# Altium footprint library AHD Footprint Library.PcbLib: 54 footprints (part 2 of 4)
Each footprint in its own frame and in the unit in brackets; x right, y up, seen from the top. Pads: shape width x height; smd on the part's side, far side on the other; paste and mask are expansions set on the pad; w line width, h text height; cw(c..) or ccw(c..) is an arc to the next point about the centre after c.
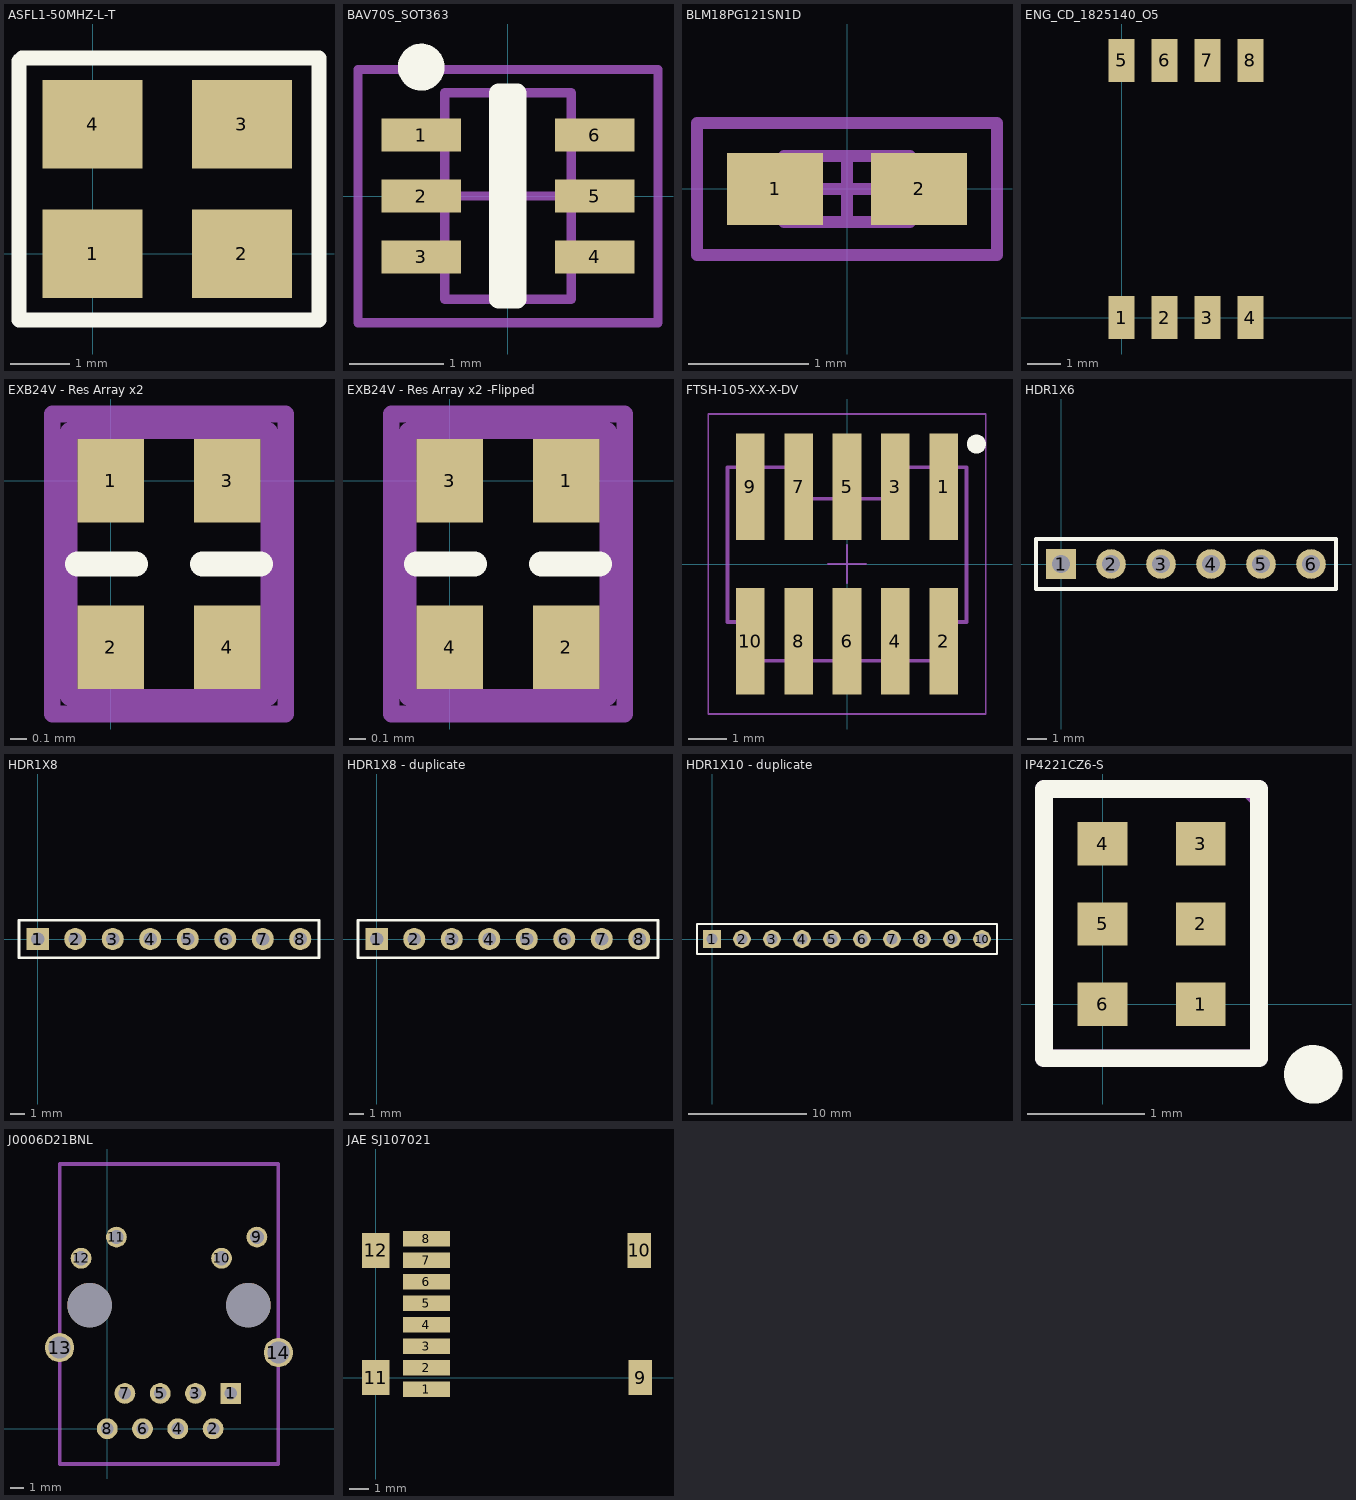
[diagram p1: the footprints below, top view; thin cyan lines are the x and y axes]

## Arduino Leonardo I2C High Byte [mm] "Arduino Lenardo header with I2C and AREF"

## ASFL1-50MHZ-L-T [mm] "Abracon ASFL1-50MHZ-L-T 50MHZ Crystal Oscillator"
pads (4):
  rect 1.7x1.5 smd: 1(0,0) 2(2.54,0) 3(2.54,2.2) 4(0,2.2)
Top Overlay:
  lines w0.254: -1.25,-1.125 3.85,-1.125 3.85,3.325 -1.2,3.325 -1.25,3.275 -1.25,-1.125

## BAV70S_SOT363 [mm] "SOT23, 6-Leads, Body 2.2x2.2mm (max), Pitch 0.65mm, IPC Medium Density"
height 1.1
pads (6):
  rect 0.85x0.35 smd: 1(-0.925,0.65) 2(-0.925,0) 3(-0.925,-0.65) 4(0.925,-0.65) 5(0.925,0) 6(0.925,0.65)
Top Overlay:
  circle w0.25: c-0.925,1.375 r0.125
  lines w0.2: -0.1,-1.1 0.1,-1.1 0.1,1.1 -0.1,1.1 -0.1,-1.1
Mechanical 13:
  lines w0.1: -0.675,-1.1 -0.675,1.1 0.675,1.1 0.675,-1.1 -0.675,-1.1
Mechanical 15:
  lines w0.1: -0.5,0 0.5,0 ; 0,-0.5 0,0.5 ; -1.6,-1.35 -1.6,1.35 1.6,1.35 1.6,-1.35 -1.6,-1.35
3D body: height 1.1, standoff 0.8, extent -0.675,-1.1 0.675,1.1

## BLM18PG121SN1D [mm] "Chip Inductor, 2-Leads, Body 1.0x0.5mm, IPC Medium Density"
height 0.6
pads (2):
  rect 0.8x0.6 smd: 1(-0.6,0) 2(0.6,0)
Mechanical 13:
  lines w0.1: -0.525,-0.275 -0.525,0.275 0.525,0.275 0.525,-0.275 -0.525,-0.275
Mechanical 15:
  lines w0.1: -0.275,0 0.275,0 ; 0,-0.275 0,0.275 ; -1.25,-0.55 -1.25,0.55 1.25,0.55 1.25,-0.55 -1.25,-0.55
3D body: height 0.6, standoff 0, extent -0.525,-0.275 0.525,0.275

## ENG_CD_1825140_O5 [mm] "4 DIP"
pads (8):
  rect 0.76x1.27 all layers, no hole: 1(0,0) 2(1.27,0) 3(2.54,0) 4(3.81,0) 5(0,7.6) 6(1.27,7.6) 7(2.54,7.6) 8(3.81,7.6)

## EXB24V - Res Array x2 [mm] "Panasonic Resistor Array"
pads (4):
  rect 0.4x0.5 smd: 1(0,0) 2(0,-1) 3(0.7,0) 4(0.7,-1)
Top Overlay:
  lines w0.15: -0.2,-0.5 0.15,-0.5 ; 0.55,-0.5 0.9,-0.5
Mechanical 13:
  lines w0.1: -0.25,-1.3 0.95,-1.3 0.95,0.3 -0.25,0.3 -0.25,-1.3
Mechanical 15:
  lines w0.1: -0.35,-1.4 -0.35,0.4 1.05,0.4 1.05,-1.4 -0.35,-1.4

## EXB24V - Res Array x2 -Flipped [mm] "Panasonic Resistor Array"
pads (4):
  rect 0.4x0.5 smd: 1(0.7,0) 2(0.7,-1) 3(0,0) 4(0,-1)
Top Overlay:
  lines w0.15: -0.2,-0.5 0.15,-0.5 ; 0.55,-0.5 0.9,-0.5
Mechanical 13:
  lines w0.1: -0.25,-1.3 -0.25,0.3 0.95,0.3 0.95,-1.3 -0.25,-1.3
Mechanical 15:
  lines w0.1: -0.35,-1.4 1.05,-1.4 1.05,0.4 -0.35,0.4 -0.35,-1.4

## FTSH-105-XX-X-DV [mm] "1.27mm pitch, 10 pin, terminal strip; vertical, SMT"
height 5.97
pads (10):
  rect 0.75x2.8 smd mask+0: 1(2.54,2.03) 2(2.54,-2.03) 3(1.27,2.03) 4(1.27,-2.03) 5(0,2.03) 6(0,-2.03) 7(-1.27,2.03) 8(-1.27,-2.03) 9(-2.54,2.03) 10(-2.54,-2.03)
Top Overlay:
  circle w0.25: c3.4,3.15 r0.125
Mechanical 12:
  lines w0.001: -3.137,-1.524 -3.137,2.54 -1.079,2.54 -1.079,1.714 1.079,1.714 1.079,2.54 3.137,2.54 3.137,-1.524 2.54,-1.524 2.54,-2.54 -2.54,-2.54 -2.54,-1.524 -3.137,-1.524
Mechanical 13:
  lines w0.1: -3.137,-1.524 -3.137,2.54 -1.079,2.54 -1.079,1.714 1.079,1.714 1.079,2.54 3.137,2.54 3.137,-1.524 2.54,-1.524 2.54,-2.54 -2.54,-2.54 -2.54,-1.524 -3.137,-1.524
Mechanical 15:
  lines w0.05: -0.5,0 0.5,0 ; 0,-0.5 0,0.5 ; -3.645,-3.937 3.645,-3.937 3.645,3.937 -3.645,3.937 -3.645,-3.937

## HDR1X6 [mm] "Connector; Header; 6 Position"
pads (6):
  rect 1.5x1.5 hole 0.9: 1(0,0)
  round 1.5 hole 0.9: 2(2.54,0) 3(5.08,0) 4(7.62,0) 5(10.16,0) 6(12.7,0)
Top Overlay:
  lines w0.2: -1.27,-1.27 -1.27,1.27 13.97,1.27 13.97,-1.27 -1.27,-1.27

## HDR1X8 [mm] "Connector; Header; 8 Position"
pads (8):
  rect 1.5x1.5 hole 0.9: 1(0,0)
  round 1.5 hole 0.9: 2(2.54,0) 3(5.08,0) 4(7.62,0) 5(10.16,0) 6(12.7,0) 7(15.24,0) 8(17.78,0)
Top Overlay:
  lines w0.2: -1.27,-1.27 -1.27,1.27 19.05,1.27 19.05,-1.27 -1.27,-1.27

## HDR1X8 - duplicate [mm] "Connector; Header; 8 Position"
pads (8):
  rect 1.5x1.5 hole 0.9: 1(0,0)
  round 1.5 hole 0.9: 2(2.54,0) 3(5.08,0) 4(7.62,0) 5(10.16,0) 6(12.7,0) 7(15.24,0) 8(17.78,0)
Top Overlay:
  lines w0.2: -1.27,-1.27 19.05,-1.27 19.05,1.27 -1.27,1.27 -1.27,-1.27

## HDR1X10 [mm] "Connector; Header; 10 Position"
height 1

## HDR1X10 - duplicate [mm] "Connector; Header; 10 Position"
height 1
pads (10):
  rect 1.5x1.5 hole 0.9: 1(0,0)
  round 1.5 hole 0.9: 2(2.54,0) 3(5.08,0) 4(7.62,0) 5(10.16,0) 6(12.7,0) 7(15.24,0) 8(17.78,0) 9(20.32,0) 10(22.86,0)
Top Overlay:
  lines w0.2: -1.27,-1.27 24.13,-1.27 24.13,1.27 0.635,1.27 -1.27,1.27 -1.27,-1.27

## IP4221CZ6-S [mm] "ESD Protection IC"
height 0.5
pads (6):
  rect 0.425x0.37 smd: 1(0.837,0) 2(0.837,0.685) 3(0.837,1.37) 4(0,1.37) 5(0,0.685) 6(0,0)
Top Overlay:
  circle w0.25: c1.8,-0.6 r0.125
  lines w0.152: -0.5,-0.463 1.337,-0.463 1.337,1.837 -0.5,1.837 -0.5,-0.463
Mechanical 13:
  lines w0.152: 1.249,1.837 1.337,1.75 ; -0.5,-0.463 -0.5,1.837 1.337,1.837 1.337,-0.463 -0.5,-0.463

## J0006D21BNL [mm] "RJ45 Integrated Magnetics and LEDs"
pads (16):
  rect 1.5x1.5 hole 0.89: 1(8.89,2.54)
  round 1.5 hole 0.89: 2(7.62,0) 3(6.35,2.54) 4(5.08,0) 5(3.81,2.54) 6(2.54,0) 7(1.27,2.54) 8(0,0)
  round 1.5 hole 1.02: 9(10.77,13.79) 10(8.23,12.27) 11(0.66,13.79) 12(-1.88,12.27)
  round 2.11 hole 1.6: 13(-3.43,5.84) 14(12.32,5.48)
  round 3.2 hole 3.2: ""(-1.27,8.89) ""(10.16,8.89)
Mechanical 1:
  lines w0.254: -3.43,-2.54 -3.43,19.05 12.32,19.05 12.32,-2.54 -3.43,-2.54

## JAE SJ107021 [mm] "JAE SJ107021 microSD Socket"
pads (12):
  rect 2.4x0.8 all layers, no hole: 1(2.6,-0.6) 2(2.6,0.5) 3(2.6,1.6) 4(2.6,2.7) 5(2.6,3.8) 6(2.6,4.9) 7(2.6,6) 8(2.6,7.1)
  rect 1.2x1.8 all layers, no hole: 9(13.55,0) 10(13.5,6.5)
  rect 1.4x1.8 all layers, no hole: 11(0,0) 12(0,6.5)